# Altium schematic symbol library apollo.SCHLIB: 58 symbols
Pins are listed as number, name and electrical type; pins without a type are passive.

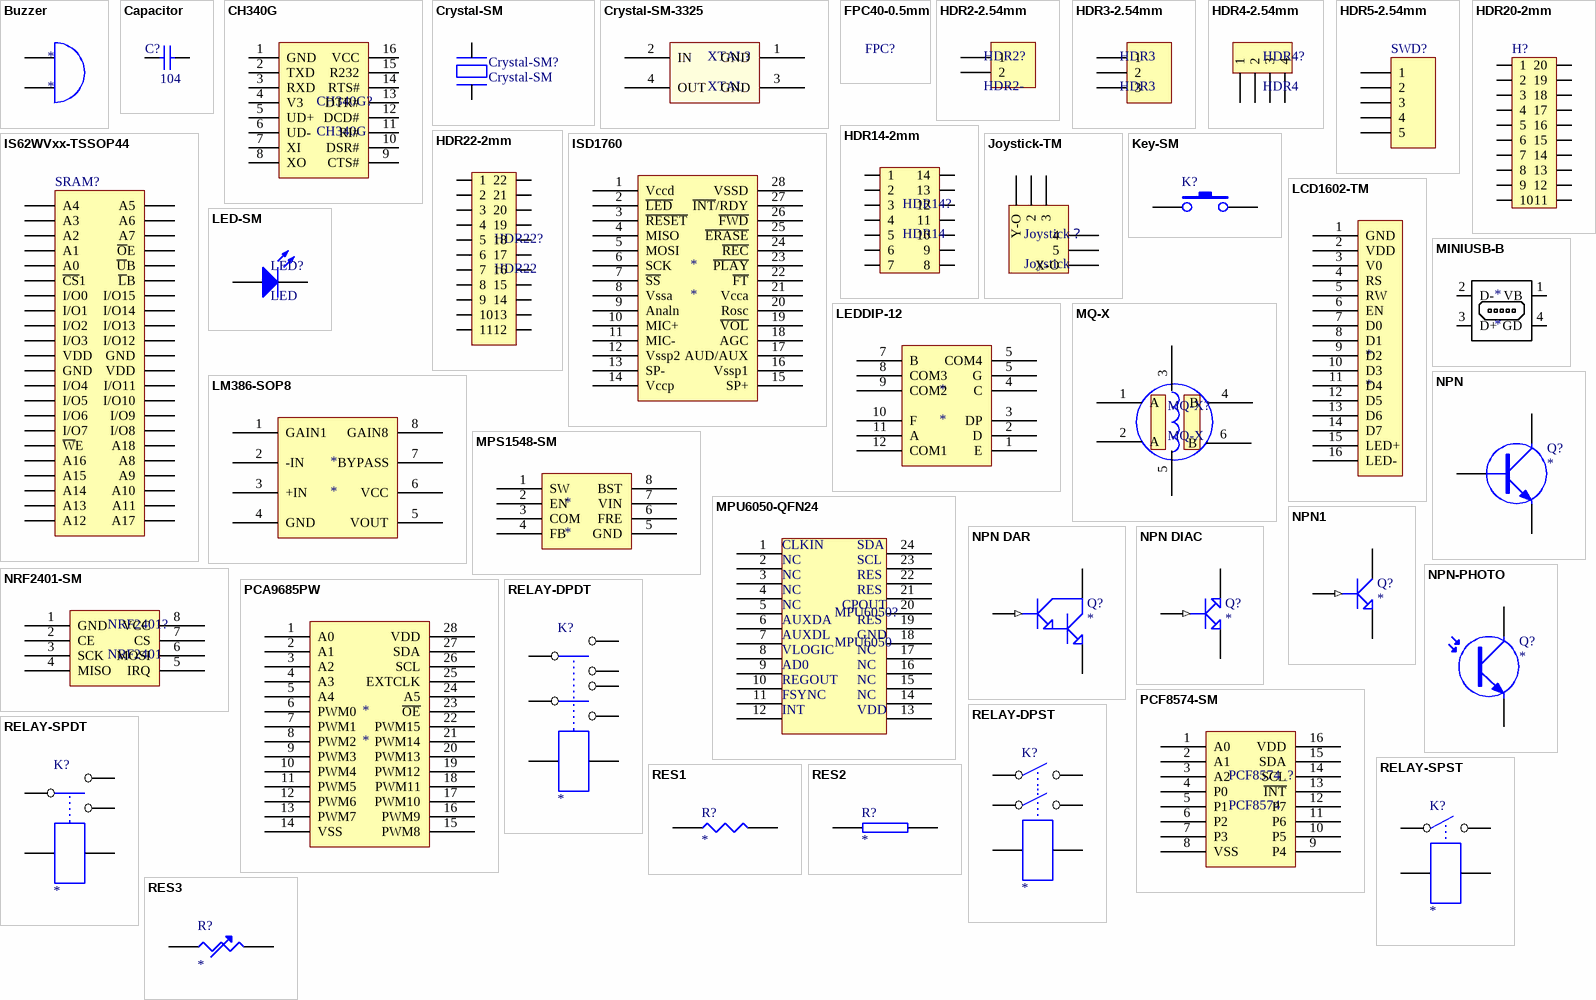
[diagram p0: symbols Buzzer to RES3]

## Buzzer
designator *
pins: 1 A, 2 B

## Capacitor
designator C?  value 104  (hidden comment: Capacitor)
Published: 8-Jun-2000; LatestRevisionDate: 17-Jul-2002; LatestRevisionNote: Re-released for DXP Platform.; PackageReference: RAD-0.3; Publisher: Altium Limited; PackageDescription: Radial Cap, Thru-Hole; 2 Leads; 0.3 in Pin Spacing
simulation model CAP (Capacitor)
signal-integrity model Cap
footprint C0603 (Caparitor 0603)
pins: 1, 2

## CH340G
designator CH340G?
CH340G SSOP 16pin
footprint SO16 (Small Outline; 16 Leads; Body Width 3.9 mm; Pitch 1.27 mm)
pins: 1 GND, 2 TXD, 3 RXD, 4 V3, 5 UD+, 6 UD-, 7 XI, 8 XO, 9 CTS#, 10 DSR#, 11 RI#, 12 DCD#, 13 DTR#, 14 RTS#, 15 R232, 16 VCC

## Crystal-SM
designator Crystal-SM?
Crystal-SM-8M
footprint CRYSTAL-SM (8M假表贴晶振)
pins: 1, 2

## Crystal-SM-3325
designator XTAL?, comment XTAL
Crystal SMD  3325 footprint
footprint crystal-3325
pins: 1 GND, 2 IN, 3 GND, 4 OUT

## FPC40-0.5mm
designator FPC?, comment FPC40  (value not drawn)
FPC40-0.5mm
footprint FPC40-0.5 (FPC 40pin接口，0.5mm间距)
1 alternate drawing of the same symbol

## HDR2-2.54mm
designator HDR2?, comment HDR2-
Header  2pin
pins: 1, 2

## HDR3-2.54mm
designator HDR3, comment HDR3
Header  3pin
pins: 1, 2, 3

## HDR4-2.54mm
designator HDR4?, comment HDR4
Header  4pin
pins: 1, 2, 3, 4

## HDR5-2.54mm
designator SWD?  (value not drawn)
Header, 5-Pin; LatestRevisionDate: 17-Jul-2002; LatestRevisionNote: Re-released for DXP Platform.; Publisher: Altium Limited
footprint HDR5-2.54 (Header  5pin  2.54mm)
signal-integrity model Connector
pins: 1, 2, 3, 4, 5

## HDR14-2mm
designator HDR14?, comment HDR14
Header  14pin 2mm
footprint HDR14-2 (Header 14pin  2mm间距)
pins: 1, 2, 3, 4, 5, 6, 7, 8, 9, 10, 11, 12, 13, 14

## HDR20-2mm
designator H?, comment head20-2mm  (value not drawn)
HDR20-2mm
footprint HDR20-2 (Header  20pin 2mm间距)
pins: 1, 2, 3, 4, 5, 6, 7, 8, 9, 10, 11, 12, 13, 14, 15, 16, 17, 18, 19, 20

## HDR22-2mm
designator HDR22?, comment HDR22
Header  22pin  2mm
footprint HDR22-2 (Header  22pin  2mm)
pins: 1, 2, 3, 4, 5, 6, 7, 8, 9, 10, 11, 12, 13, 14, 15, 16, 17, 18, 19, 20, 21, 22

## IS62WVxx-TSSOP44
designator SRAM?  (value not drawn)
IS62WVxx
footprint TSSOP-44 (TSSOP44)
pins: 1 A4, 2 A3, 3 A2, 4 A1, 5 A0, 6 ~{CS}1, 7 I/O0, 8 I/O1, 9 I/O2, 10 I/O3, 11 VDD, 12 GND, 13 I/O4, 14 I/O5, 15 I/O6, 16 I/O7, 17 ~{W}E, 18 A16, 19 A15, 20 A14, 21 A13, 22 A12, 23 A17, 24 A11, 25 A10, 26 A9, 27 A8, 28 A18, 29 I/O8, 30 I/O9, 31 I/O10, 32 I/O11, 33 VDD, 34 GND, 35 I/O12, 36 I/O13, 37 I/O14, 38 I/O15, 39 ~{L}B, 40 ~{U}B, 41 ~{O}E, 42 A7, 43 A6, 44 A5

## ISD1760
designator *
footprint SO28X (Small Outline; 28 Leads; Body Width 8.9 mm; Pitch 1.27 mm)
pins: 1 Vccd, 2 ~{LED}, 3 ~{RESET}, 4 MISO, 5 MOSI, 6 SCK, 7 ~{SS}, 8 Vssa, 9 Analn, 10 MIC+, 11 MIC-, 12 Vssp2, 13 SP-, 14 Vccp, 15 SP+, 16 Vssp1, 17 AUD/AUX, 18 AGC, 19 ~{VOL}, 20 Rosc, 21 Vcca, 22 ~{FT}, 23 ~{PLAY}, 24 ~{REC}, 25 ~{ERASE}, 26 ~{FWD}, 27 ~{INT}/RDY, 28 VSSD

## Joystick-TM
designator Joystick？, comment Joystick
Joystick  4pin 直插
pins: 1 Y-O, 2, 3, 4, 5, 6 X-O

## Key-SM
designator K?  (value not drawn)
Key SMD
footprint KEY-SM-3x6x5 (表贴按键)
pins: 1, 2

## LCD1602-TM
designator *
pins: 1 GND, 2 VDD, 3 V0, 4 RS, 5 RW, 6 EN, 7 D0, 8 D1, 9 D2, 10 D3, 11 D4, 12 D5, 13 D6, 14 D7, 15 LED+, 16 LED-

## LED-SM
designator LED?, comment LED
LED  SMD
footprint C0603 (Caparitor 0603)
pins: 1 A, 2 K

## LEDDIP-12
designator *
footprint LEDDIP-12/4 (ED, 7-Segment Display, 14.22 mm, Four Digit, 88:88; 12 Leads; Row Space 15.24 mm; Pitch 2.54 mm)
pins: 1 E, 2 D, 3 DP, 4 C, 5 G, 5 COM4, 7 B, 8 COM3, 9 COM2, 10 F, 11 A, 12 COM1

## LM386-SOP8
designator *
footprint SOP-8 (SOP8, 芯片主体宽6.22mm)
pins: 1 GAIN1, 2 -IN, 3 +IN, 4 GND, 5 VOUT, 6 VCC, 7 BYPASS, 8 GAIN8

## MINIUSB-B
designator *
footprint MINUSB-B
pins: 1 VB, 2 D-, 3 D+, 4 GD

## MPS1548-SM
designator *
footprint SOP-8 (SOP8, 芯片主体宽6.22mm)
pins: 1 SW, 2 EN, 3 COM, 4 FB, 5 GND, 6 FRE, 7 VIN, 8 BST

## MPU6050-QFN24
designator MPU6050?, comment MPU6050
pins: 1, 2, 3, 4, 5, 6, 7, 8, 9, 10, 11, 12, 13, 14, 15, 16, 17, 18, 19, 20, 21, 22, 23, 24
text: CLKIN; SDA; NC; SCL; RES; CPOUT; AUXDA; AUXDL; GND; VLOGIC; AD0; REGOUT; FSYNC; INT; VDD

## MQ-X
designator MQ-X?
MQ Serial Gass sensor
footprint MQ-TM (Throu mount MQ-x serial gass sensor)
pins: 1 A, 2 A, 3, 4 B, 5, 6 B
1 alternate drawing of the same symbol

## NPN
designator Q?
NPN Transistor
pins: 1 B, 2 C, 3 E

## NPN1
designator Q?
NPN Transistor
pins: 1 B (in), 2 C, 3 E

## NPN DAR
designator Q?
NPN Darlington Transistor
pins: 1 B (in), 2 C, 3 E

## NPN DIAC
designator Q?
pins: 1 B (in), 2 C, 3 E

## NPN-PHOTO
designator Q?
pins: 1 C, 2 E

## NRF2401-SM
designator NRF2401?, comment NRF2401
pins: 1 GND, 2 CE, 3 SCK, 4 MISO, 5 IRQ, 6 MOSI, 7 CS, 8 VCC

## PCA9685PW
designator *
footprint TSSOP-28 (Shrink Small Outline; 28 Leads; Body Width 4.4 mm;)
pins: 1 A0, 2 A1, 3 A2, 4 A3, 5 A4, 6 PWM0, 7 PWM1, 8 PWM2, 9 PWM3, 10 PWM4, 11 PWM5, 12 PWM6, 13 PWM7, 14 VSS, 15 PWM8, 16 PWM9, 17 PWM10, 18 PWM11, 19 PWM12, 20 PWM13, 21 PWM14, 22 PWM15, 23 ~{OE}, 24 A5, 25 EXTCLK, 26 SCL, 27 SDA, 28 VDD

## PCF8574-SM
designator PCF8574_?, comment PCF8574
PCF8574, 8bit I/O expander
footprint SO16W (Small Outline; 16 Leads; Body Width 7.5 mm; Pitch 1.27 mm)
pins: 1 A0, 2 A1, 3 A2, 4 P0, 5 P1, 6 P2, 7 P3, 8 VSS, 9 P4, 10 P5, 11 P6, 12 P7, 13 ~{INT}, 14 SCL, 15 SDA, 16 VDD

## RELAY-DPDT
designator K?
pins: 1, 2, 3, 4, 5, 6, 7, 8

## RELAY-DPST
designator K?
pins: 1, 2, 3, 4, 5, 6

## RELAY-SPDT
designator K?
pins: 1, 2, 3, 4, 5

## RELAY-SPST
designator K?
pins: 1, 2, 3, 4

## RES1
designator R?
pins: 1, 2

## RES2
designator R?
pins: 1, 2

## RES3
designator R?
pins: 1, 2

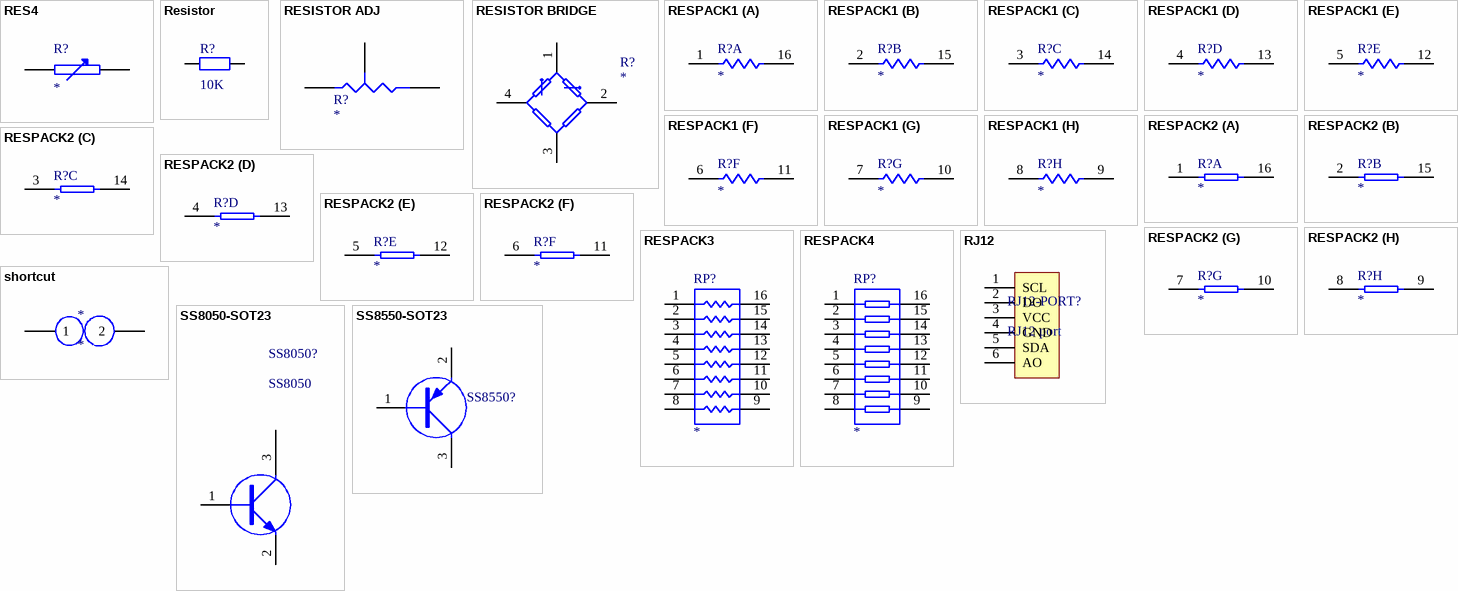
[diagram p1: symbols RES4 to SS8550-SOT23]

## RES4
designator R?
pins: 1, 2

## Resistor
designator R?  value 10K  (hidden comment: Resistor)
Published: 8-Jun-2000; LatestRevisionDate: 17-Jul-2002; LatestRevisionNote: Re-released for DXP Platform.; PackageReference: AXIAL-0.4; Publisher: Altium Limited; PackageDescription: Axial Device, Thru-Hole; 2 Leads; 0.4 in Pin Spacing
simulation model RESISTOR (Resistor)
signal-integrity model Res
footprint R0603 (Resistor 0603)
footprint R0805 (Resistor 0805)
pins: 1, 2

## RESISTOR ADJ
designator R?
pins: 1 A, 2 TAP, 3 B

## RESISTOR BRIDGE
designator R?
Resistor Bridge
pins: 1, 2, 3, 4

## RESPACK1
designator R?
footprint DIP-16
part A pins: 1, 16
part B pins: 2, 15
part C pins: 3, 14
part D pins: 4, 13
part E pins: 5, 12
part F pins: 6, 11
part G pins: 7, 10
part H pins: 8, 9

## RESPACK2
designator R?
footprint DIP-16
part A pins: 1, 16
part B pins: 2, 15
part C pins: 3, 14
part D pins: 4, 13
part E pins: 5, 12
part F pins: 6, 11
part G pins: 7, 10
part H pins: 8, 9

## RESPACK3
designator RP?
footprint DIP-16
pins: 1, 2, 3, 4, 5, 6, 7, 8, 9, 10, 11, 12, 13, 14, 15, 16

## RESPACK4
designator RP?
footprint DIP-16
pins: 1, 2, 3, 4, 5, 6, 7, 8, 9, 10, 11, 12, 13, 14, 15, 16

## RJ12
designator RJ12-PORT?, comment RJ12 port
footprint RJ12-S-12X15X14.5 (RJ12 socket)
pins: 1 SCL, 2 DO, 3 VCC, 4 GND, 5 SDA, 6 AO

## shortcut
designator *
pins: 1, 2

## SS8050-SOT23
designator SS8050?, comment SS8050
footprint SOT-23 (SOT23)
pins: 1 B, 2 E, 3 C

## SS8550-SOT23
designator SS8550?, comment SS8550  (value not drawn)
footprint SOT-23 (SOT23)
pins: 1 B, 2 E, 3 C

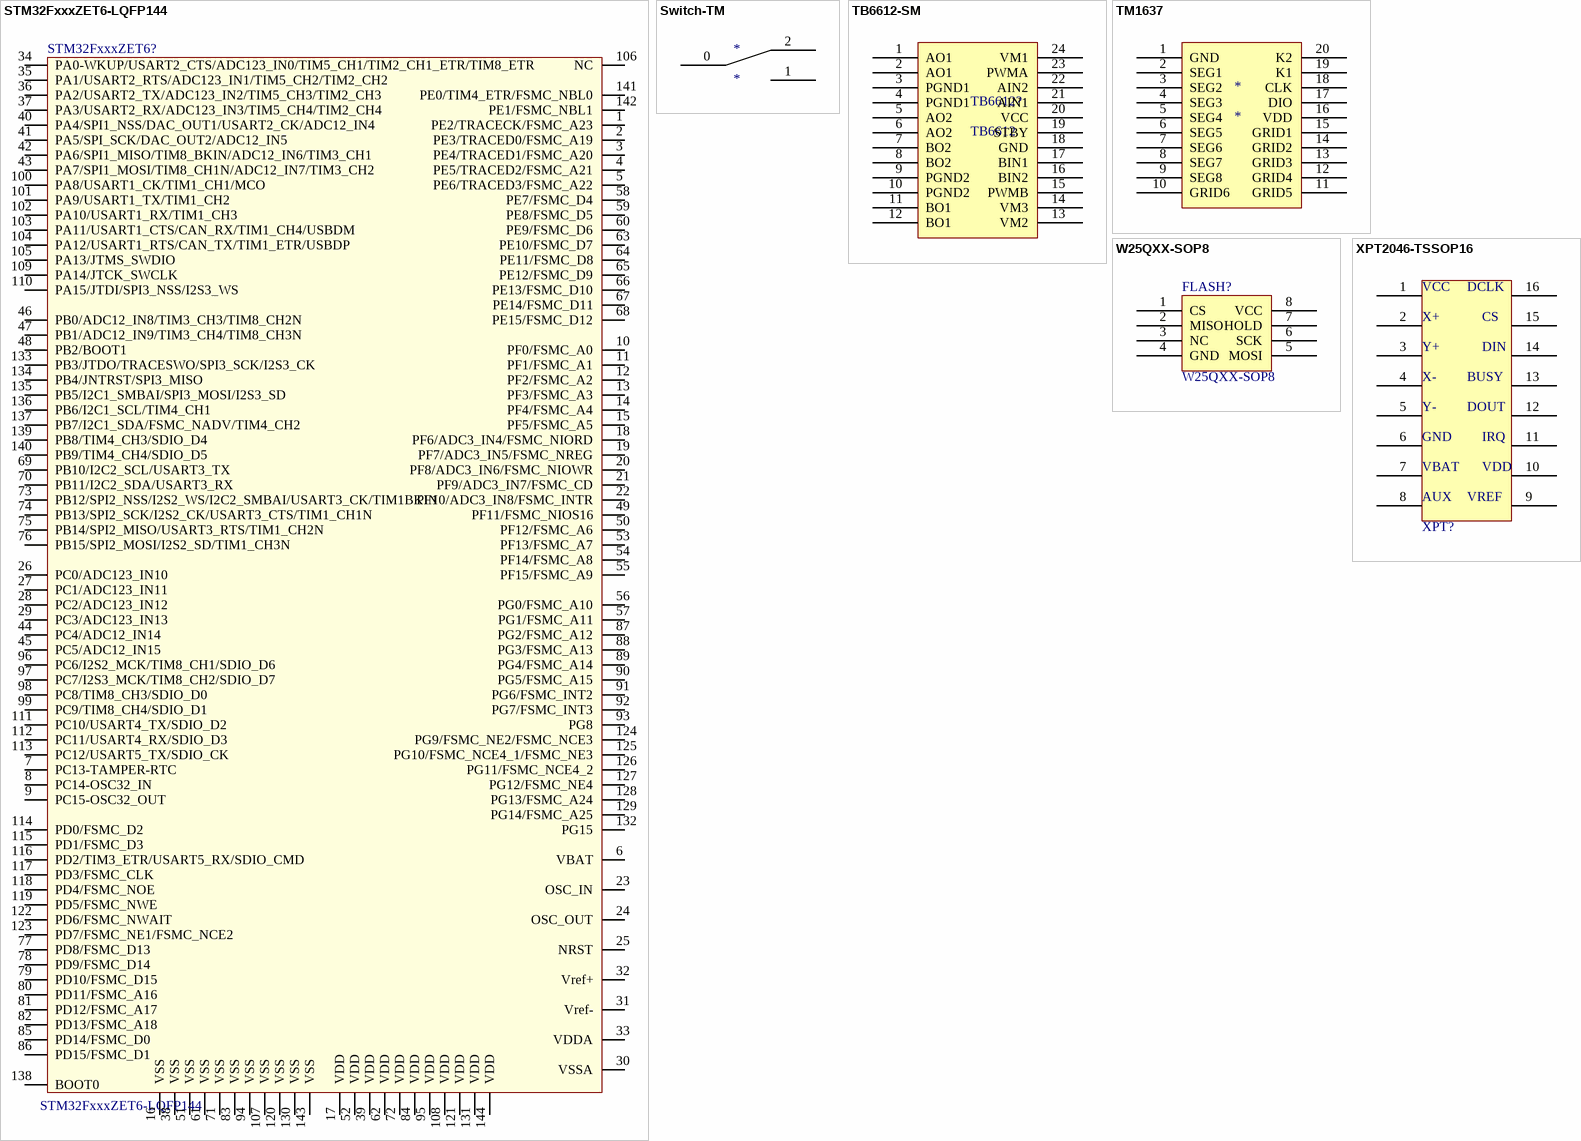
[diagram p2: symbols STM32FxxxZET6-LQFP144 to XPT2046-TSSOP16]

## STM32FxxxZET6-LQFP144
designator STM32FxxxZET6?
STM32F103ZET6
footprint LQFP-144 (LQFP， 144pin)
pins: 1 PE2/TRACECK/FSMC_A23, 2 PE3/TRACED0/FSMC_A19, 3 PE4/TRACED1/FSMC_A20, 4 PE5/TRACED2/FSMC_A21, 5 PE6/TRACED3/FSMC_A22, 6 VBAT, 7 PC13-TAMPER-RTC, 8 PC14-OSC32_IN, 9 PC15-OSC32_OUT, 10 PF0/FSMC_A0, 11 PF1/FSMC_A1, 12 PF2/FSMC_A2, 13 PF3/FSMC_A3, 14 PF4/FSMC_A4, 15 PF5/FSMC_A5, 16 VSS, 17 VDD, 18 PF6/ADC3_IN4/FSMC_NIORD, 19 PF7/ADC3_IN5/FSMC_NREG, 20 PF8/ADC3_IN6/FSMC_NIOWR, 21 PF9/ADC3_IN7/FSMC_CD, 22 PF10/ADC3_IN8/FSMC_INTR, 23 OSC_IN, 24 OSC_OUT, 25 NRST, 26 PC0/ADC123_IN10, 27 PC1/ADC123_IN11, 28 PC2/ADC123_IN12, 29 PC3/ADC123_IN13, 30 VSSA, 31 Vref-, 32 Vref+, 33 VDDA, 34 PA0-WKUP/USART2_CTS/ADC123_IN0/TIM5_CH1/TIM2_CH1_ETR/TIM8_ETR, 35 PA1/USART2_RTS/ADC123_IN1/TIM5_CH2/TIM2_CH2, 36 PA2/USART2_TX/ADC123_IN2/TIM5_CH3/TIM2_CH3, 37 PA3/USART2_RX/ADC123_IN3/TIM5_CH4/TIM2_CH4, 38 VSS, 39 VDD, 40 PA4/SPI1_NSS/DAC_OUT1/USART2_CK/ADC12_IN4, 41 PA5/SPI_SCK/DAC_OUT2/ADC12_IN5, 42 PA6/SPI1_MISO/TIM8_BKIN/ADC12_IN6/TIM3_CH1, 43 PA7/SPI1_MOSI/TIM8_CH1N/ADC12_IN7/TIM3_CH2, 44 PC4/ADC12_IN14, 45 PC5/ADC12_IN15, 46 PB0/ADC12_IN8/TIM3_CH3/TIM8_CH2N, 47 PB1/ADC12_IN9/TIM3_CH4/TIM8_CH3N, 48 PB2/BOOT1, 49 PF11/FSMC_NIOS16, 50 PF12/FSMC_A6, 51 VSS, 52 VDD, 53 PF13/FSMC_A7, 54 PF14/FSMC_A8, 55 PF15/FSMC_A9, 56 PG0/FSMC_A10, 57 PG1/FSMC_A11, 58 PE7/FSMC_D4, 59 PE8/FSMC_D5, 60 PE9/FSMC_D6, 61 VSS, 62 VDD, 63 PE10/FSMC_D7, 64 PE11/FSMC_D8, 65 PE12/FSMC_D9, 66 PE13/FSMC_D10, 67 PE14/FSMC_D11, 68 PE15/FSMC_D12, 69 PB10/I2C2_SCL/USART3_TX, 70 PB11/I2C2_SDA/USART3_RX, 71 VSS, 72 VDD, 73 PB12/SPI2_NSS/I2S2_WS/I2C2_SMBAI/USART3_CK/TIM1BKIN, 74 PB13/SPI2_SCK/I2S2_CK/USART3_CTS/TIM1_CH1N, 75 PB14/SPI2_MISO/USART3_RTS/TIM1_CH2N, 76 PB15/SPI2_MOSI/I2S2_SD/TIM1_CH3N, 77 PD8/FSMC_D13, 78 PD9/FSMC_D14, 79 PD10/FSMC_D15, 80 PD11/FSMC_A16, 81 PD12/FSMC_A17, 82 PD13/FSMC_A18, 83 VSS, 84 VDD, 85 PD14/FSMC_D0, 86 PD15/FSMC_D1, 87 PG2/FSMC_A12, 88 PG3/FSMC_A13, 89 PG4/FSMC_A14, 90 PG5/FSMC_A15, 91 PG6/FSMC_INT2, 92 PG7/FSMC_INT3, 93 PG8, 94 VSS, 95 VDD, 96 PC6/I2S2_MCK/TIM8_CH1/SDIO_D6, 97 PC7/I2S3_MCK/TIM8_CH2/SDIO_D7, 98 PC8/TIM8_CH3/SDIO_D0, 99 PC9/TIM8_CH4/SDIO_D1, 100 PA8/USART1_CK/TIM1_CH1/MCO, 101 PA9/USART1_TX/TIM1_CH2, 102 PA10/USART1_RX/TIM1_CH3, 103 PA11/USART1_CTS/CAN_RX/TIM1_CH4/USBDM, 104 PA12/USART1_RTS/CAN_TX/TIM1_ETR/USBDP, 105 PA13/JTMS_SWDIO, 106 NC, 107 VSS, 108 VDD, 109 PA14/JTCK_SWCLK, 110 PA15/JTDI/SPI3_NSS/I2S3_WS, 111 PC10/USART4_TX/SDIO_D2, 112 PC11/USART4_RX/SDIO_D3, 113 PC12/USART5_TX/SDIO_CK, 114 PD0/FSMC_D2, 115 PD1/FSMC_D3, 116 PD2/TIM3_ETR/USART5_RX/SDIO_CMD, 117 PD3/FSMC_CLK, 118 PD4/FSMC_NOE, 119 PD5/FSMC_NWE, 120 VSS, 121 VDD, 122 PD6/FSMC_NWAIT, 123 PD7/FSMC_NE1/FSMC_NCE2, 124 PG9/FSMC_NE2/FSMC_NCE3, 125 PG10/FSMC_NCE4_1/FSMC_NE3, 126 PG11/FSMC_NCE4_2, 127 PG12/FSMC_NE4, 128 PG13/FSMC_A24, 129 PG14/FSMC_A25, 130 VSS, 131 VDD, 132 PG15, 133 PB3/JTDO/TRACESWO/SPI3_SCK/I2S3_CK, 134 PB4/JNTRST/SPI3_MISO, 135 PB5/I2C1_SMBAI/SPI3_MOSI/I2S3_SD, 136 PB6/I2C1_SCL/TIM4_CH1, 137 PB7/I2C1_SDA/FSMC_NADV/TIM4_CH2, 138 BOOT0, 139 PB8/TIM4_CH3/SDIO_D4, 140 PB9/TIM4_CH4/SDIO_D5, 141 PE0/TIM4_ETR/FSMC_NBL0, 142 PE1/FSMC_NBL1, 143 VSS, 144 VDD

## Switch-TM
designator *
pins: 0, 1, 2

## TB6612-SM
designator TB6612?, comment TB6612
TB6612 Motor driver
footprint SSOP-24 (SSOP  24pin)
pins: 1 AO1, 2 AO1, 3 PGND1, 4 PGND1, 5 AO2, 6 AO2, 7 BO2, 8 BO2, 9 PGND2, 10 PGND2, 11 BO1, 12 BO1, 13 VM2, 14 VM3, 15 PWMB, 16 BIN2, 17 BIN1, 18 GND, 19 STBY, 20 VCC, 21 AIN1, 22 AIN2, 23 PWMA, 24 VM1

## TM1637
designator *
footprint SOP20W
pins: 1 GND, 2 SEG1, 3 SEG2, 4 SEG3, 5 SEG4, 6 SEG5, 7 SEG6, 8 SEG7, 9 SEG8, 10 GRID6, 11 GRID5, 12 GRID4, 13 GRID3, 14 GRID2, 15 GRID1, 16 VDD, 17 DIO, 18 CLK, 19 K1, 20 K2

## W25QXX-SOP8
designator FLASH?
footprint SOP-8 (SOP8, 芯片主体宽6.22mm)
pins: 1 CS, 2 MISO, 3 NC, 4 GND, 5 MOSI, 6 SCK, 7 HOLD, 8 VCC

## XPT2046-TSSOP16
designator XPT?  (value not drawn)
XPT2046
footprint TSSOP-16 (TSSOP 16pin)
pins: 1, 2, 3, 4, 5, 6, 7, 8, 9, 10, 11, 12, 13, 14, 15, 16
text: VCC; DCLK; X+; CS; Y+; DIN; X-; BUSY; Y-; DOUT; GND; IRQ; VBAT; VDD; AUX; VREF